# Altium integrated library Capacitor - Aluminium TH.IntLib: 4591 symbols (part 4 of 68)
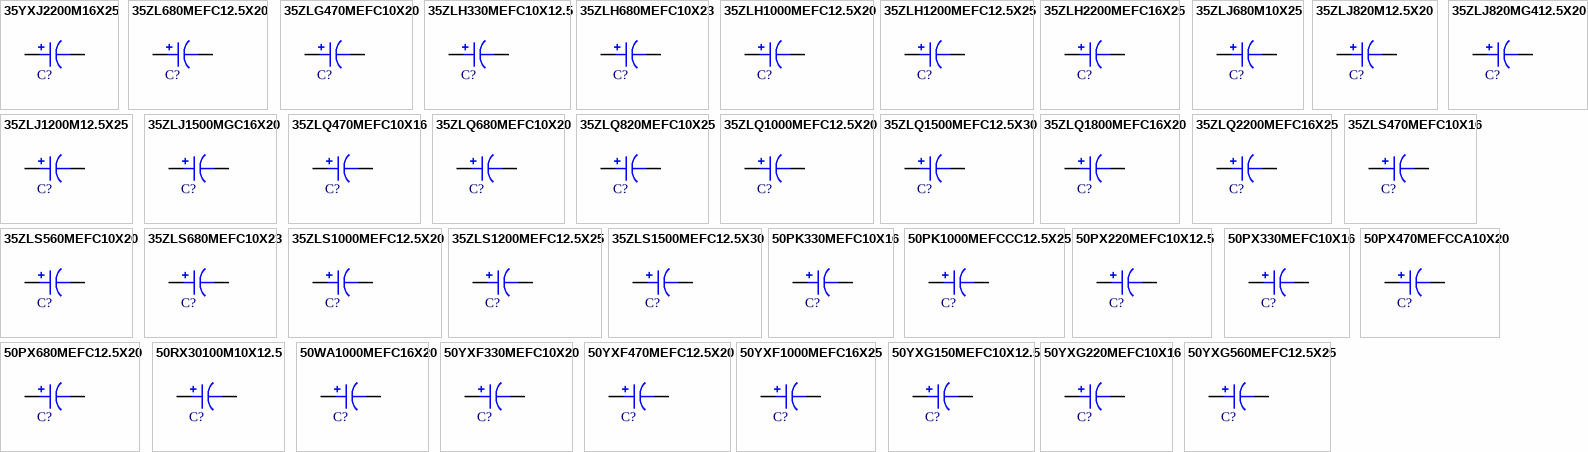
[diagram p117: symbols 35YXJ2200M16X25 to 50YXG560MEFC12.5X25]

## 35ZLH330MEFC10X12.5
designator C?, comment 330uF  (value not drawn)
CAP ALUM 330UF 20% 35V RADIAL; Part Number: 35ZLH330MEFC10X12.5; Manufacturer: Rubycon; TemperatureRange: -40C ~ 105C; Type: Polar; Ripple Current: 731.5mA; Impedance: 39 mOhm; Value: 330uF; PartId: 24871; Supplier 1: Digi-Key; Supplier Part Number 1: 1189-1891-ND; ComponentLink1Description: Datasheet; ComponentLink1URL: http://www.rubycon.co.jp/en/catalog/e_pdfs/aluminum/e_zlh.pdf; ComponentLink2Description: Digi-Key Listing; ComponentLink2URL: https://www.digikey.com/product-detail/en/rubycon/35ZLH330MEFC10X12.5/1189-1891-ND/3563615; Tolerance: 20%; Voltage: 35V; Price: 0.48; Device Package: Radial, Can, 10mm
footprint CAP AL TH D10 L5 H14.5
pins: 1, 2

## 35ZLH680MEFC10X23
designator C?, comment 680uF  (value not drawn)
CAP ALUM 680UF 20% 35V RADIAL; Part Number: 35ZLH680MEFC10X23; Manufacturer: Rubycon; TemperatureRange: -40C ~ 105C; Type: Polar; Ripple Current: 1.238A; Impedance: 18 mOhm; Value: 680uF; PartId: 26048; Supplier 1: Digi-Key; Supplier Part Number 1: 1189-1749-ND; ComponentLink1Description: Datasheet; ComponentLink1URL: http://www.rubycon.co.jp/en/catalog/e_pdfs/aluminum/e_zlh.pdf; ComponentLink2Description: Digi-Key Listing; ComponentLink2URL: https://www.digikey.com/product-detail/en/rubycon/35ZLH680MEFC10X23/1189-1749-ND/3563861; Tolerance: 20%; Voltage: 35V; Price: 0.63; Device Package: Radial, Can, 10mm
footprint CAP AL TH D10 L5 H30
pins: 1, 2

## 35ZLH1000MEFC12.5X20
designator C?, comment 1000uF  (value not drawn)
CAP ALUM 1000UF 20% 35V RADIAL; Part Number: 35ZLH1000MEFC12.5X20; Manufacturer: Rubycon; TemperatureRange: -40C ~ 105C; Type: Polar; Ripple Current: 1.488A; Impedance: 17 mOhm; Value: 1000uF; PartId: 23344; Supplier 1: Digi-Key; Supplier Part Number 1: 1189-1888-ND; ComponentLink1Description: Datasheet; ComponentLink1URL: http://www.rubycon.co.jp/en/catalog/e_pdfs/aluminum/e_zlh.pdf; ComponentLink2Description: Digi-Key Listing; ComponentLink2URL: https://www.digikey.com/product-detail/en/rubycon/35ZLH1000MEFC12.5X20/1189-1888-ND/3564067; Tolerance: 20%; Voltage: 35V; Price: 0.85; Device Package: Radial, Can, 12.5mm
footprint CAP AL TH D12.5 L5 H22
pins: 1, 2

## 35ZLH1200MEFC12.5X25
designator C?, comment 1200uF  (value not drawn)
CAP ALUM 1200UF 20% 35V RADIAL; Part Number: 35ZLH1200MEFC12.5X25; Manufacturer: Rubycon; TemperatureRange: -40C ~ 105C; Type: Polar; Ripple Current: 1.74A; Impedance: 15 mOhm; Value: 1200uF; PartId: 23917; Supplier 1: Digi-Key; Supplier Part Number 1: 1189-2265-ND; ComponentLink1Description: Datasheet; ComponentLink1URL: http://www.rubycon.co.jp/en/catalog/e_pdfs/aluminum/e_zlh.pdf; ComponentLink2Description: Digi-Key Listing; ComponentLink2URL: https://www.digikey.com/product-detail/en/rubycon/35ZLH1200MEFC12.5X25/1189-2265-ND/3564152; Tolerance: 20%; Voltage: 35V; Price: 0.93; Device Package: Radial, Can, 12.5mm
footprint CAP AL TH D12.5 L5 H27
pins: 1, 2

## 35ZLH2200MEFC16X25
designator C?, comment 2200uF  (value not drawn)
CAP ALUM 2200UF 20% 35V RADIAL; Part Number: 35ZLH2200MEFC16X25; Manufacturer: Rubycon; TemperatureRange: -40C ~ 105C; Type: Polar; Ripple Current: 2.541A; Impedance: 13 mOhm; Value: 2200uF; PartId: 26883; Supplier 1: Digi-Key; Supplier Part Number 1: 1189-2266-ND; ComponentLink1Description: Datasheet; ComponentLink1URL: http://www.rubycon.co.jp/en/catalog/e_pdfs/aluminum/e_zlh.pdf; ComponentLink2Description: Digi-Key Listing; ComponentLink2URL: https://www.digikey.com/product-detail/en/rubycon/35ZLH2200MEFC16X25/1189-2266-ND/3564493; Tolerance: 20%; Voltage: 35V; Price: 1.31; Device Package: Radial, Can, 16mm
footprint CAP AL TH D16 L7.5 H27
pins: 1, 2

## 35ZLJ680M10X25
designator C?, comment 680uF  (value not drawn)
CAP ALUM 680UF 20% 35V RADIAL; Part Number: 35ZLJ680M10X25; Manufacturer: Rubycon; TemperatureRange: -40C ~ 105C; Type: Polar; Ripple Current: 1.595A @ 120Hz; Impedance: 24 mOhm; Value: 680uF; PartId: 26156; Supplier 1: Digi-Key; Supplier Part Number 1: 1189-1307-ND; ComponentLink1Description: Datasheet; ComponentLink1URL: http://www.rubycon.co.jp/en/catalog/e_pdfs/aluminum/e_zlj.pdf; ComponentLink2Description: Digi-Key Listing; ComponentLink2URL: https://www.digikey.com/product-detail/en/rubycon/35ZLJ680M10X25/1189-1307-ND/3134263; Tolerance: 20%; Voltage: 35V; Price: 0.86; Device Package: Radial, Can, 10mm
footprint CAP AL TH D10 L5 H30
pins: 1, 2

## 35ZLJ820M12.5X20
designator C?, comment 820uF  (value not drawn)
CAP ALUM 820UF 20% 35V RADIAL; Part Number: 35ZLJ820M12.5X20; Manufacturer: Rubycon; TemperatureRange: -40C ~ 105C; Type: Polar; Ripple Current: 1.56A @ 120Hz; Impedance: 25 mOhm; Value: 820uF; PartId: 23432; Supplier 1: Digi-Key; Supplier Part Number 1: 1189-2274-ND; ComponentLink1Description: Datasheet; ComponentLink1URL: http://www.rubycon.co.jp/en/catalog/e_pdfs/aluminum/e_zlj.pdf; ComponentLink2Description: Digi-Key Listing; ComponentLink2URL: https://www.digikey.com/product-detail/en/rubycon/35ZLJ820M12.5X20/1189-2274-ND/3564068; Tolerance: 20%; Voltage: 35V; Price: 1.01; Device Package: Radial, Can, 12.5mm
footprint CAP AL TH D12.5 L5 H22
pins: 1, 2

## 35ZLJ820MG412.5X20
designator C?, comment 820uF  (value not drawn)
CAP ALUM 820UF 20% 35V RADIAL; Part Number: 35ZLJ820MG412.5X20; Manufacturer: Rubycon; TemperatureRange: -40C ~ 105C; Type: Polar; Ripple Current: 1.56A @ 120Hz; Impedance: 25 mOhm; Value: 820uF; PartId: 23495; Supplier 1: Digi-Key; Supplier Part Number 1: 1189-1631-1-ND; ComponentLink1Description: Datasheet; ComponentLink1URL: http://www.rubycon.co.jp/en/catalog/e_pdfs/aluminum/e_zlj.pdf; ComponentLink2Description: Digi-Key Listing; ComponentLink2URL: https://www.digikey.com/product-detail/en/rubycon/35ZLJ820MG412.5X20/1189-1631-1-ND/3134588; Tolerance: 20%; Voltage: 35V; Price: 1.19; Device Package: Radial, Can, 12.5mm
footprint CAP AL TH D12.5 L5 H22
pins: 1, 2

## 35ZLJ1200M12.5X25
designator C?, comment 1200uF  (value not drawn)
CAP ALUM 1200UF 20% 35V RADIAL; Part Number: 35ZLJ1200M12.5X25; Manufacturer: Rubycon; TemperatureRange: -40C ~ 105C; Type: Polar; Ripple Current: 1.92A @ 120Hz; Impedance: 19 mOhm; Value: 1200uF; PartId: 24085; Supplier 1: Digi-Key; Supplier Part Number 1: 1189-2269-ND; ComponentLink1Description: Datasheet; ComponentLink1URL: http://www.rubycon.co.jp/en/catalog/e_pdfs/aluminum/e_zlj.pdf; ComponentLink2Description: Digi-Key Listing; ComponentLink2URL: https://www.digikey.com/product-detail/en/rubycon/35ZLJ1200M12.5X25/1189-2269-ND/3564157; Tolerance: 20%; Voltage: 35V; Price: 1.23; Device Package: Radial, Can, 12.5mm
footprint CAP AL TH D12.5 L5 H27
pins: 1, 2

## 35ZLJ1500MGC16X20
designator C?, comment 1500uF  (value not drawn)
CAP ALUM 1500UF 20% 35V RADIAL; Part Number: 35ZLJ1500MGC16X20; Manufacturer: Rubycon; TemperatureRange: -40C ~ 105C; Type: Polar; Ripple Current: 1.998A @ 120Hz; Impedance: 21 mOhm; Value: 1500uF; PartId: 26397; Supplier 1: Digi-Key; Supplier Part Number 1: 1189-1628-3-ND; ComponentLink1Description: Datasheet; ComponentLink1URL: http://www.rubycon.co.jp/en/catalog/e_pdfs/aluminum/e_zlj.pdf; ComponentLink2Description: Digi-Key Listing; ComponentLink2URL: https://www.digikey.com/product-detail/en/rubycon/35ZLJ1500MGC16X20/1189-1628-3-ND/3134908; Tolerance: 20%; Voltage: 35V; Price: 0.8684; Device Package: Radial, Can, 16mm
footprint CAP AL TH D16 L7.5 H22
pins: 1, 2

## 35ZLQ470MEFC10X16
designator C?, comment 470uF  (value not drawn)
CAP ALUM 470UF 20% 35V T/H; Part Number: 35ZLQ470MEFC10X16; Manufacturer: Rubycon; TemperatureRange: -40C ~ 105C; Type: Polar; Ripple Current: 1.0615A @ 120Hz; Impedance: 25 mOhm; Value: 470uF; PartId: 25446; Supplier 1: Digi-Key; Supplier Part Number 1: 1189-3662-ND; ComponentLink1Description: Datasheet; ComponentLink1URL: http://www.rubycon.co.jp/en/catalog/e_pdfs/aluminum/e_ZLQ.pdf; ComponentLink2Description: Digi-Key Listing; ComponentLink2URL: https://www.digikey.com/product-detail/en/rubycon/35ZLQ470MEFC10X16/1189-3662-ND/6049879; Tolerance: 20%; Voltage: 35V; Price: 0.68; Device Package: Radial, Can, 10mm
footprint CAP AL TH D10 L5 H17.5
pins: 1, 2

## 35ZLQ680MEFC10X20
designator C?, comment 680uF  (value not drawn)
CAP ALUM 680UF 20% 35V T/H; Part Number: 35ZLQ680MEFC10X20; Manufacturer: Rubycon; TemperatureRange: -40C ~ 105C; Type: Polar; Ripple Current: 1.1715A @ 120Hz; Impedance: 18 mOhm; Value: 680uF; PartId: 25913; Supplier 1: Digi-Key; Supplier Part Number 1: 1189-3663-ND; ComponentLink1Description: Datasheet; ComponentLink1URL: http://www.rubycon.co.jp/en/catalog/e_pdfs/aluminum/e_ZLQ.pdf; ComponentLink2Description: Digi-Key Listing; ComponentLink2URL: https://www.digikey.com/product-detail/en/rubycon/35ZLQ680MEFC10X20/1189-3663-ND/6049880; Tolerance: 20%; Voltage: 35V; Price: 0.7; Device Package: Radial, Can, 10mm
footprint CAP AL TH D10 L5 H22
pins: 1, 2

## 35ZLQ820MEFC10X25
designator C?, comment 820uF  (value not drawn)
CAP ALUM 820UF 20% 35V T/H; Part Number: 35ZLQ820MEFC10X25; Manufacturer: Rubycon; TemperatureRange: -40C ~ 105C; Type: Polar; Ripple Current: 1.5A @ 120Hz; Impedance: 15 mOhm; Value: 820uF; PartId: 26126; Supplier 1: Digi-Key; Supplier Part Number 1: 1189-3664-ND; ComponentLink1Description: Datasheet; ComponentLink1URL: http://www.rubycon.co.jp/en/catalog/e_pdfs/aluminum/e_ZLQ.pdf; ComponentLink2Description: Digi-Key Listing; ComponentLink2URL: https://www.digikey.com/product-detail/en/rubycon/35ZLQ820MEFC10X25/1189-3664-ND/6050013; Tolerance: 20%; Voltage: 35V; Price: 0.78; Device Package: Radial, Can, 10mm
footprint CAP AL TH D10 L5 H30
pins: 1, 2

## 35ZLQ1000MEFC12.5X20
designator C?, comment 1000uF  (value not drawn)
CAP ALUM 1000UF 20% 35V T/H; Part Number: 35ZLQ1000MEFC12.5X20; Manufacturer: Rubycon; TemperatureRange: -40C ~ 105C; Type: Polar; Ripple Current: 1.614A @ 120Hz; Impedance: 16 mOhm; Value: 1000uF; PartId: 23434; Supplier 1: Digi-Key; Supplier Part Number 1: 1189-3665-ND; ComponentLink1Description: Datasheet; ComponentLink1URL: http://www.rubycon.co.jp/en/catalog/e_pdfs/aluminum/e_ZLQ.pdf; ComponentLink2Description: Digi-Key Listing; ComponentLink2URL: https://www.digikey.com/product-detail/en/rubycon/35ZLQ1000MEFC12.5X20/1189-3665-ND/6050014; Tolerance: 20%; Voltage: 35V; Price: 1.01; Device Package: Radial, Can, 12.5mm
footprint CAP AL TH D12.5 L5 H22
pins: 1, 2

## 35ZLQ1500MEFC12.5X30
designator C?, comment 1500uF  (value not drawn)
CAP ALUM 1500UF 20% 35V T/H; Part Number: 35ZLQ1500MEFC12.5X30; Manufacturer: Rubycon; TemperatureRange: -40C ~ 105C; Type: Polar; Ripple Current: 2.208A @ 120Hz; Impedance: 12 mOhm; Value: 1500uF; PartId: 24311; Supplier 1: Digi-Key; Supplier Part Number 1: 1189-3666-ND; ComponentLink1Description: Datasheet; ComponentLink1URL: http://www.rubycon.co.jp/en/catalog/e_pdfs/aluminum/e_ZLQ.pdf; ComponentLink2Description: Digi-Key Listing; ComponentLink2URL: https://www.digikey.com/product-detail/en/rubycon/35ZLQ1500MEFC12.5X30/1189-3666-ND/6050015; Tolerance: 20%; Voltage: 35V; Price: 1.23; Device Package: Radial, Can, 12.5mm
footprint CAP AL TH D12.5 L5 H35.5
pins: 1, 2

## 35ZLQ1800MEFC16X20
designator C?, comment 1800uF  (value not drawn)
CAP ALUM 1800UF 20% 35V T/H; Part Number: 35ZLQ1800MEFC16X20; Manufacturer: Rubycon; TemperatureRange: -40C ~ 105C; Type: Polar; Ripple Current: 2.1A @ 120Hz; Impedance: 14 mOhm; Value: 1800uF; PartId: 26448; Supplier 1: Digi-Key; Supplier Part Number 1: 1189-3668-ND; ComponentLink1Description: Datasheet; ComponentLink1URL: http://www.rubycon.co.jp/en/catalog/e_pdfs/aluminum/e_ZLQ.pdf; ComponentLink2Description: Digi-Key Listing; ComponentLink2URL: https://www.digikey.com/product-detail/en/rubycon/35ZLQ1800MEFC16X20/1189-3668-ND/6050191; Tolerance: 20%; Voltage: 35V; Price: 1.48; Device Package: Radial, Can, 16mm
footprint CAP AL TH D16 L7.5 H22
pins: 1, 2

## 35ZLQ2200MEFC16X25
designator C?, comment 2200uF  (value not drawn)
CAP ALUM 2200UF 20% 35V T/H; Part Number: 35ZLQ2200MEFC16X25; Manufacturer: Rubycon; TemperatureRange: -40C ~ 105C; Type: Polar; Ripple Current: 2.716A @ 120Hz; Impedance: 11 mOhm; Value: 2200uF; PartId: 26909; Supplier 1: Digi-Key; Supplier Part Number 1: 1189-3670-ND; ComponentLink1Description: Datasheet; ComponentLink1URL: http://www.rubycon.co.jp/en/catalog/e_pdfs/aluminum/e_ZLQ.pdf; ComponentLink2Description: Digi-Key Listing; ComponentLink2URL: https://www.digikey.com/product-detail/en/rubycon/35ZLQ2200MEFC16X25/1189-3670-ND/6050192; Tolerance: 20%; Voltage: 35V; Price: 1.62; Device Package: Radial, Can, 16mm
footprint CAP AL TH D16 L7.5 H27
pins: 1, 2

## 35ZLS470MEFC10X16
designator C?, comment 470uF  (value not drawn)
CAP ALUM 470UF 20% 35V RADIAL; Part Number: 35ZLS470MEFC10X16; Manufacturer: Rubycon; TemperatureRange: -40C ~ 105C; Type: Polar; Ripple Current: 907.5mA; Impedance: 32 mOhm; Value: 470uF; PartId: 25352; Supplier 1: Digi-Key; Supplier Part Number 1: 1189-2598-ND; ComponentLink1Description: Datasheet; ComponentLink1URL: http://www.rubycon.co.jp/en/catalog/e_pdfs/aluminum/e_zls.pdf; ComponentLink2Description: Digi-Key Listing; ComponentLink2URL: https://www.digikey.com/product-detail/en/rubycon/35ZLS470MEFC10X16/1189-2598-ND/4977144; Tolerance: 20%; Voltage: 35V; Price: 0.69; Device Package: Radial, Can, 10mm
footprint CAP AL TH D10 L5 H17.5
pins: 1, 2

## 35ZLS560MEFC10X20
designator C?, comment 560uF  (value not drawn)
CAP ALUM 560UF 20% 35V RADIAL; Part Number: 35ZLS560MEFC10X20; Manufacturer: Rubycon; TemperatureRange: -40C ~ 105C; Type: Polar; Ripple Current: 1.078A; Impedance: 20 mOhm; Value: 560uF; PartId: 25889; Supplier 1: Digi-Key; Supplier Part Number 1: 1189-2599-ND; ComponentLink1Description: Datasheet; ComponentLink1URL: http://www.rubycon.co.jp/en/catalog/e_pdfs/aluminum/e_zls.pdf; ComponentLink2Description: Digi-Key Listing; ComponentLink2URL: https://www.digikey.com/product-detail/en/rubycon/35ZLS560MEFC10X20/1189-2599-ND/4977145; Tolerance: 20%; Voltage: 35V; Price: 0.65; Device Package: Radial, Can, 10mm
footprint CAP AL TH D10 L5 H22
pins: 1, 2

## 35ZLS680MEFC10X23
designator C?, comment 680uF  (value not drawn)
CAP ALUM 680UF 20% 35V RADIAL; Part Number: 35ZLS680MEFC10X23; Manufacturer: Rubycon; TemperatureRange: -40C ~ 105C; Type: Polar; Ripple Current: 1.238A; Impedance: 18 mOhm; Value: 680uF; PartId: 26124; Supplier 1: Digi-Key; Supplier Part Number 1: 1189-2600-ND; ComponentLink1Description: Datasheet; ComponentLink1URL: http://www.rubycon.co.jp/en/catalog/e_pdfs/aluminum/e_zls.pdf; ComponentLink2Description: Digi-Key Listing; ComponentLink2URL: https://www.digikey.com/product-detail/en/rubycon/35ZLS680MEFC10X23/1189-2600-ND/4977146; Tolerance: 20%; Voltage: 35V; Price: 0.78; Device Package: Radial, Can, 10mm
footprint CAP AL TH D10 L5 H30
pins: 1, 2

## 35ZLS1000MEFC12.5X20
designator C?, comment 1000uF  (value not drawn)
CAP ALUM 1000UF 20% 35V RADIAL; Part Number: 35ZLS1000MEFC12.5X20; Manufacturer: Rubycon; TemperatureRange: -40C ~ 105C; Type: Polar; Ripple Current: 1.488A; Impedance: 17 mOhm; Value: 1000uF; PartId: 23429; Supplier 1: Digi-Key; Supplier Part Number 1: 1189-2601-ND; ComponentLink1Description: Datasheet; ComponentLink1URL: http://www.rubycon.co.jp/en/catalog/e_pdfs/aluminum/e_zls.pdf; ComponentLink2Description: Digi-Key Listing; ComponentLink2URL: https://www.digikey.com/product-detail/en/rubycon/35ZLS1000MEFC12.5X20/1189-2601-ND/4977147; Tolerance: 20%; Voltage: 35V; Price: 1.01; Device Package: Radial, Can, 12.5mm
footprint CAP AL TH D12.5 L5 H22
pins: 1, 2

## 35ZLS1200MEFC12.5X25
designator C?, comment 1200uF  (value not drawn)
CAP ALUM 1200UF 20% 35V RADIAL; Part Number: 35ZLS1200MEFC12.5X25; Manufacturer: Rubycon; TemperatureRange: -40C ~ 105C; Type: Polar; Ripple Current: 1.74A; Impedance: 15 mOhm; Value: 1200uF; PartId: 23977; Supplier 1: Digi-Key; Supplier Part Number 1: 1189-2602-ND; ComponentLink1Description: Datasheet; ComponentLink1URL: http://www.rubycon.co.jp/en/catalog/e_pdfs/aluminum/e_zls.pdf; ComponentLink2Description: Digi-Key Listing; ComponentLink2URL: https://www.digikey.com/product-detail/en/rubycon/35ZLS1200MEFC12.5X25/1189-2602-ND/4977148; Tolerance: 20%; Voltage: 35V; Price: 1.02; Device Package: Radial, Can, 12.5mm
footprint CAP AL TH D12.5 L5 H27
pins: 1, 2

## 35ZLS1500MEFC12.5X30
designator C?, comment 1500uF  (value not drawn)
CAP ALUM 1500UF 20% 35V RADIAL; Part Number: 35ZLS1500MEFC12.5X30; Manufacturer: Rubycon; TemperatureRange: -40C ~ 105C; Type: Polar; Ripple Current: 2.07A; Impedance: 13 mOhm; Value: 1500uF; PartId: 24339; Supplier 1: Digi-Key; Supplier Part Number 1: 1189-2603-ND; ComponentLink1Description: Datasheet; ComponentLink1URL: http://www.rubycon.co.jp/en/catalog/e_pdfs/aluminum/e_zls.pdf; ComponentLink2Description: Digi-Key Listing; ComponentLink2URL: https://www.digikey.com/product-detail/en/rubycon/35ZLS1500MEFC12.5X30/1189-2603-ND/4977149; Tolerance: 20%; Voltage: 35V; Price: 1.31; Device Package: Radial, Can, 12.5mm
footprint CAP AL TH D12.5 L5 H35.5
pins: 1, 2

## 50PK330MEFC10X16
designator C?, comment 330uF  (value not drawn)
CAP ALUM 330UF 20% 50V RADIAL; Part Number: 50PK330MEFC10X16; Manufacturer: Rubycon; TemperatureRange: -40C ~ 85C; Ripple Current: 590mA; Value: 330uF; PartId: 25316; Supplier 1: Digi-Key; Supplier Part Number 1: 1189-1395-ND; ComponentLink1Description: Datasheet; ComponentLink1URL: http://www.rubycon.co.jp/en/catalog/e_pdfs/aluminum/e_pk.pdf; ComponentLink2Description: Digi-Key Listing; ComponentLink2URL: https://www.digikey.com/product-detail/en/rubycon/50PK330MEFC10X16/1189-1395-ND/3134351; Tolerance: 20%; Voltage: 50V; Price: 0.65; Device Package: Radial, Can, 10mm
footprint CAP AL TH D10 L5 H17.5
pins: 1, 2

## 50PK1000MEFCCC12.5X25
designator C?, comment 1000uF  (value not drawn)
CAP ALUM 1000UF 20% 50V RADIAL; Part Number: 50PK1000MEFCCC12.5X25; Manufacturer: Rubycon; TemperatureRange: -40C ~ 85C; Ripple Current: 1.35A; Value: 1000uF; PartId: 23701; Supplier 1: Digi-Key; Supplier Part Number 1: 1189-1393-ND; ComponentLink1Description: Datasheet; ComponentLink1URL: http://www.rubycon.co.jp/en/catalog/e_pdfs/aluminum/e_pk.pdf; ComponentLink2Description: Digi-Key Listing; ComponentLink2URL: https://www.digikey.com/product-detail/en/rubycon/50PK1000MEFCCC12.5X25/1189-1393-ND/3134349; Tolerance: 20%; Voltage: 50V; Price: 1.09; Device Package: Radial, Can, 12.5mm
footprint CAP AL TH D12.5 L5 H26.5
pins: 1, 2

## 50PX220MEFC10X12.5
designator C?, comment 220uF  (value not drawn)
CAP ALUM 220UF 20% 50V RADIAL; Part Number: 50PX220MEFC10X12.5; Manufacturer: Rubycon; TemperatureRange: -55C ~ 105C; Type: Polar; Ripple Current: 360mA; Value: 220uF; PartId: 24763; Supplier 1: Digi-Key; Supplier Part Number 1: 1189-2310-ND; ComponentLink1Description: Datasheet; ComponentLink1URL: http://www.rubycon.co.jp/en/catalog/e_pdfs/aluminum/e_px.pdf; ComponentLink2Description: Digi-Key Listing; ComponentLink2URL: https://www.digikey.com/product-detail/en/rubycon/50PX220MEFC10X12.5/1189-2310-ND/3563560; Tolerance: 20%; Voltage: 50V; Price: 0.43; Device Package: Radial, Can, 10mm
footprint CAP AL TH D10 L5 H14.5
pins: 1, 2

## 50PX330MEFC10X16
designator C?, comment 330uF  (value not drawn)
CAP ALUM 330UF 20% 50V RADIAL; Part Number: 50PX330MEFC10X16; Manufacturer: Rubycon; TemperatureRange: -55C ~ 105C; Type: Polar; Ripple Current: 470mA; Value: 330uF; PartId: 25339; Supplier 1: Digi-Key; Supplier Part Number 1: 1189-1404-ND; ComponentLink1Description: Datasheet; ComponentLink1URL: http://www.rubycon.co.jp/en/catalog/e_pdfs/aluminum/e_px.pdf; ComponentLink2Description: Digi-Key Listing; ComponentLink2URL: https://www.digikey.com/product-detail/en/rubycon/50PX330MEFC10X16/1189-1404-ND/3134360; Tolerance: 20%; Voltage: 50V; Price: 0.67; Device Package: Radial, Can, 10mm
footprint CAP AL TH D10 L5 H17.5
pins: 1, 2

## 50PX470MEFCCA10X20
designator C?, comment 470uF  (value not drawn)
CAP ALUM 470UF 20% 50V RADIAL; Part Number: 50PX470MEFCCA10X20; Manufacturer: Rubycon; TemperatureRange: -55C ~ 105C; Type: Polar; Ripple Current: 600mA; Value: 470uF; PartId: 25600; Supplier 1: Digi-Key; Supplier Part Number 1: 1189-1407-ND; ComponentLink1Description: Datasheet; ComponentLink1URL: http://www.rubycon.co.jp/en/catalog/e_pdfs/aluminum/e_px.pdf; ComponentLink2Description: Digi-Key Listing; ComponentLink2URL: https://www.digikey.com/product-detail/en/rubycon/50PX470MEFCCA10X20/1189-1407-ND/3134363; Tolerance: 20%; Voltage: 50V; Price: 0.69; Device Package: Radial, Can, 10mm
footprint CAP AL TH D10 L5 H22
pins: 1, 2

## 50PX680MEFC12.5X20
designator C?, comment 680uF  (value not drawn)
CAP ALUM 680UF 20% 50V RADIAL; Part Number: 50PX680MEFC12.5X20; Manufacturer: Rubycon; TemperatureRange: -55C ~ 105C; Type: Polar; Ripple Current: 980mA; Value: 680uF; PartId: 22955; Supplier 1: Digi-Key; Supplier Part Number 1: 1189-1409-ND; ComponentLink1Description: Datasheet; ComponentLink1URL: http://www.rubycon.co.jp/en/catalog/e_pdfs/aluminum/e_px.pdf; ComponentLink2Description: Digi-Key Listing; ComponentLink2URL: https://www.digikey.com/product-detail/en/rubycon/50PX680MEFC12.5X20/1189-1409-ND/3134365; Tolerance: 20%; Voltage: 50V; Price: 0; Device Package: Radial, Can, 12.5mm
footprint CAP AL TH D12.5 L5 H21.5
pins: 1, 2

## 50RX30100M10X12.5
designator C?, comment 100uF  (value not drawn)
CAP ALUM 100UF 20% 50V RADIAL; Part Number: 50RX30100M10X12.5; Manufacturer: Rubycon; TemperatureRange: -40C ~ 130C; Type: Polar; Ripple Current: 364mA; Impedance: 180 mOhm; Value: 100uF; PartId: 24870; Supplier 1: Digi-Key; Supplier Part Number 1: 1189-2311-ND; ComponentLink1Description: Datasheet; ComponentLink1URL: http://www.rubycon.co.jp/en/catalog/e_pdfs/aluminum/e_rx30.pdf; ComponentLink2Description: Digi-Key Listing; ComponentLink2URL: https://www.digikey.com/product-detail/en/rubycon/50RX30100M10X12.5/1189-2311-ND/3563571; Tolerance: 20%; Voltage: 50V; Price: 0.48; Device Package: Radial, Can, 10mm
footprint CAP AL TH D10 L5 H14.5
pins: 1, 2

## 50WA1000MEFC16X20
designator C?, comment 1000uF  (value not drawn)
CAP ALUM 1000UF 20% 50V RADIAL; Part Number: 50WA1000MEFC16X20; Manufacturer: Rubycon; TemperatureRange: -40C ~ 85C; Ripple Current: 1.05A; Value: 1000uF; PartId: 26410; Supplier 1: Digi-Key; Supplier Part Number 1: 1189-2314-ND; ComponentLink1Description: Datasheet; ComponentLink1URL: http://www.rubycon.co.jp/en/catalog/e_pdfs/aluminum/e_wa.pdf; ComponentLink2Description: Digi-Key Listing; ComponentLink2URL: https://www.digikey.com/product-detail/en/rubycon/50WA1000MEFC16X20/1189-2314-ND/3564370; Tolerance: 20%; Voltage: 50V; Price: 1.04; Device Package: Radial, Can, 16mm
footprint CAP AL TH D16 L7.5 H22
pins: 1, 2

## 50YXF330MEFC10X20
designator C?, comment 330uF  (value not drawn)
CAP ALUM 330UF 20% 50V RADIAL; Part Number: 50YXF330MEFC10X20; Manufacturer: Rubycon; TemperatureRange: -40C ~ 105C; Type: Polar; Ripple Current: 735mA; Impedance: 78 mOhm; Value: 330uF; PartId: 25918; Supplier 1: Digi-Key; Supplier Part Number 1: 1189-2317-ND; ComponentLink1Description: Datasheet; ComponentLink1URL: http://www.rubycon.co.jp/en/catalog/e_pdfs/aluminum/e_yxf.pdf; ComponentLink2Description: Digi-Key Listing; ComponentLink2URL: https://www.digikey.com/product-detail/en/rubycon/50YXF330MEFC10X20/1189-2317-ND/3563780; Tolerance: 20%; Voltage: 50V; Price: 0.71; Device Package: Radial, Can, 10mm
footprint CAP AL TH D10 L5 H22
pins: 1, 2

## 50YXF470MEFC12.5X20
designator C?, comment 470uF  (value not drawn)
CAP ALUM 470UF 20% 50V RADIAL; Part Number: 50YXF470MEFC12.5X20; Manufacturer: Rubycon; TemperatureRange: -40C ~ 105C; Type: Polar; Ripple Current: 975mA; Impedance: 62 mOhm; Value: 470uF; PartId: 23417; Supplier 1: Digi-Key; Supplier Part Number 1: 1189-2318-ND; ComponentLink1Description: Datasheet; ComponentLink1URL: http://www.rubycon.co.jp/en/catalog/e_pdfs/aluminum/e_yxf.pdf; ComponentLink2Description: Digi-Key Listing; ComponentLink2URL: https://www.digikey.com/product-detail/en/rubycon/50YXF470MEFC12.5X20/1189-2318-ND/3564022; Tolerance: 20%; Voltage: 50V; Price: 1; Device Package: Radial, Can, 12.5mm
footprint CAP AL TH D12.5 L5 H22
pins: 1, 2

## 50YXF1000MEFC16X25
designator C?, comment 1000uF  (value not drawn)
CAP ALUM 1000UF 20% 50V RADIAL; Part Number: 50YXF1000MEFC16X25; Manufacturer: Rubycon; TemperatureRange: -40C ~ 105C; Type: Polar; Ripple Current: 1.4A; Impedance: 34 mOhm; Value: 1000uF; PartId: 26913; Supplier 1: Digi-Key; Supplier Part Number 1: 1189-2315-ND; ComponentLink1Description: Datasheet; ComponentLink1URL: http://www.rubycon.co.jp/en/catalog/e_pdfs/aluminum/e_yxf.pdf; ComponentLink2Description: Digi-Key Listing; ComponentLink2URL: https://www.digikey.com/product-detail/en/rubycon/50YXF1000MEFC16X25/1189-2315-ND/3564460; Tolerance: 20%; Voltage: 50V; Price: 1.64; Device Package: Radial, Can, 16mm
footprint CAP AL TH D16 L7.5 H27
pins: 1, 2

## 50YXG150MEFC10X12.5
designator C?, comment 150uF  (value not drawn)
CAP ALUM 150UF 20% 50V RADIAL; Part Number: 50YXG150MEFC10X12.5; Manufacturer: Rubycon; TemperatureRange: -40C ~ 105C; Type: Polar; Value: 150uF; PartId: 24949; Supplier 1: Digi-Key; Supplier Part Number 1: 1189-1411-ND; ComponentLink1Description: Datasheet; ComponentLink1URL: http://www.rubycon.co.jp/en/catalog/e_pdfs/aluminum/e_yxg.pdf; ComponentLink2Description: Digi-Key Listing; ComponentLink2URL: https://www.digikey.com/product-detail/en/rubycon/50YXG150MEFC10X12.5/1189-1411-ND/3134367; Tolerance: 20%; Voltage: 50V; Price: 0.52; Device Package: Radial, Can, 10mm
footprint CAP AL TH D10 L5 H14.5
pins: 1, 2

## 50YXG220MEFC10X16
designator C?, comment 220uF  (value not drawn)
CAP ALUM 220UF 20% 50V RADIAL; Part Number: 50YXG220MEFC10X16; Manufacturer: Rubycon; TemperatureRange: -40C ~ 105C; Type: Polar; Ripple Current: 525mA @ 120Hz; Impedance: 84 mOhm; Value: 220uF; PartId: 25296; Supplier 1: Digi-Key; Supplier Part Number 1: 1189-1754-ND; ComponentLink1Description: Datasheet; ComponentLink1URL: http://www.rubycon.co.jp/en/catalog/e_pdfs/aluminum/e_yxg.pdf; ComponentLink2Description: Digi-Key Listing; ComponentLink2URL: https://www.digikey.com/product-detail/en/rubycon/50YXG220MEFC10X16/1189-1754-ND/3563696; Tolerance: 20%; Voltage: 50V; Price: 0.63; Device Package: Radial, Can, 10mm
footprint CAP AL TH D10 L5 H17.5
pins: 1, 2

## 50YXG560MEFC12.5X25
designator C?, comment 560uF  (value not drawn)
CAP ALUM 560UF 20% 50V RADIAL; Part Number: 50YXG560MEFC12.5X25; Manufacturer: Rubycon; TemperatureRange: -40C ~ 105C; Type: Polar; Ripple Current: 1.072A @ 120Hz; Impedance: 34 mOhm; Value: 560uF; PartId: 23992; Supplier 1: Digi-Key; Supplier Part Number 1: 1189-1756-ND; ComponentLink1Description: Datasheet; ComponentLink1URL: http://www.rubycon.co.jp/en/catalog/e_pdfs/aluminum/e_yxg.pdf; ComponentLink2Description: Digi-Key Listing; ComponentLink2URL: https://www.digikey.com/product-detail/en/rubycon/50YXG560MEFC12.5X25/1189-1756-ND/3564115; Tolerance: 20%; Voltage: 50V; Price: 1.04; Device Package: Radial, Can, 12.5mm
footprint CAP AL TH D12.5 L5 H27
pins: 1, 2

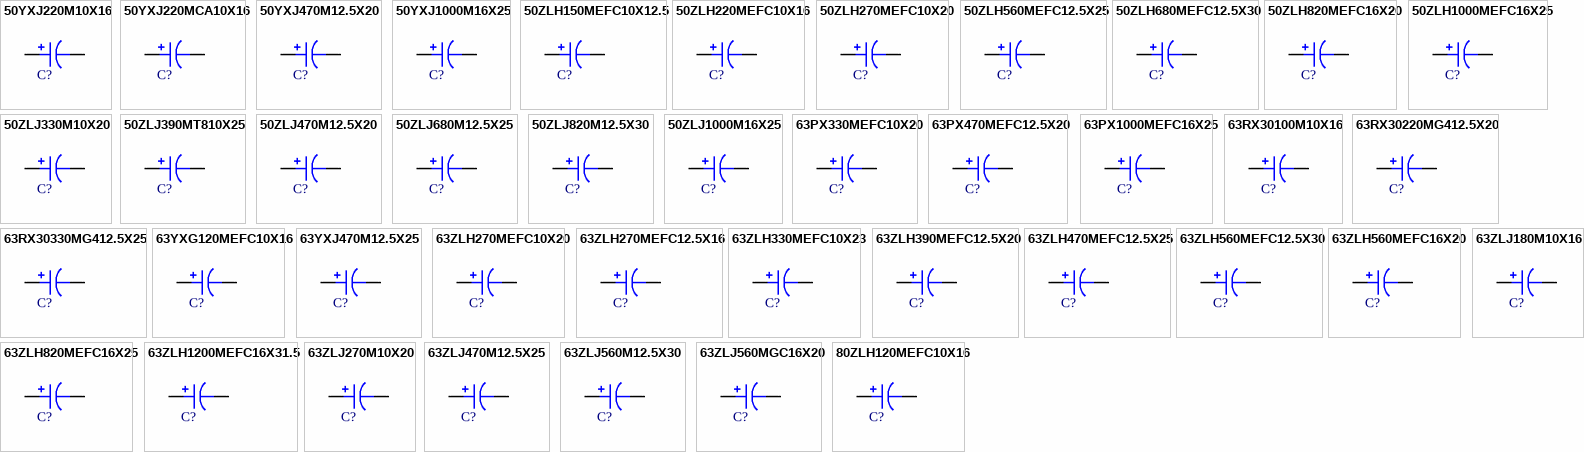
[diagram p6: symbols 50YXJ220M10X16 to 80ZLH120MEFC10X16]

## 50YXJ220M10X16
designator C?, comment 220uF  (value not drawn)
CAP ALUM 220UF 20% 50V RADIAL; Part Number: 50YXJ220M10X16; Manufacturer: Rubycon; TemperatureRange: -40C ~ 105C; Type: Polar; Ripple Current: 1.05A; Impedance: 84 mOhm; Value: 220uF; PartId: 25249; Supplier 1: Digi-Key; Supplier Part Number 1: 1189-1770-ND; ComponentLink1Description: Datasheet; ComponentLink1URL: http://www.rubycon.co.jp/en/catalog/e_pdfs/aluminum/e_yxj.pdf; ComponentLink2Description: Digi-Key Listing; ComponentLink2URL: https://www.digikey.com/product-detail/en/rubycon/50YXJ220M10X16/1189-1770-ND/3563704; Tolerance: 20%; Voltage: 50V; Price: 0.57; Device Package: Radial, Can, 10mm
footprint CAP AL TH D10 L5 H17.5
pins: 1, 2

## 50YXJ220MCA10X16
designator C?, comment 220uF  (value not drawn)
CAP ALUM 220UF 20% 50V RADIAL; Part Number: 50YXJ220MCA10X16; Manufacturer: Rubycon; TemperatureRange: -40C ~ 105C; Type: Polar; Ripple Current: 1.05A; Impedance: 84 mOhm; Value: 220uF; PartId: 25324; Supplier 1: Digi-Key; Supplier Part Number 1: 1189-1423-ND; ComponentLink1Description: Datasheet; ComponentLink1URL: http://www.rubycon.co.jp/en/catalog/e_pdfs/aluminum/e_yxj.pdf; ComponentLink2Description: Digi-Key Listing; ComponentLink2URL: https://www.digikey.com/product-detail/en/rubycon/50YXJ220MCA10X16/1189-1423-ND/3134379; Tolerance: 20%; Voltage: 50V; Price: 0.66; Device Package: Radial, Can, 10mm
footprint CAP AL TH D10 L5 H17.5
pins: 1, 2

## 50YXJ470M12.5X20
designator C?, comment 470uF  (value not drawn)
CAP ALUM 470UF 20% 50V RADIAL; Part Number: 50YXJ470M12.5X20; Manufacturer: Rubycon; TemperatureRange: -40C ~ 105C; Type: Polar; Ripple Current: 1.66A; Impedance: 45 mOhm; Value: 470uF; PartId: 23410; Supplier 1: Digi-Key; Supplier Part Number 1: 1189-2324-ND; ComponentLink1Description: Datasheet; ComponentLink1URL: http://www.rubycon.co.jp/en/catalog/e_pdfs/aluminum/e_yxj.pdf; ComponentLink2Description: Digi-Key Listing; ComponentLink2URL: https://www.digikey.com/product-detail/en/rubycon/50YXJ470M12.5X20/1189-2324-ND/3564044; Tolerance: 20%; Voltage: 50V; Price: 0.99; Device Package: Radial, Can, 12.5mm
footprint CAP AL TH D12.5 L5 H22
pins: 1, 2

## 50YXJ1000M16X25
designator C?, comment 1000uF  (value not drawn)
CAP ALUM 1000UF 20% 50V RADIAL; Part Number: 50YXJ1000M16X25; Manufacturer: Rubycon; TemperatureRange: -40C ~ 105C; Type: Polar; Ripple Current: 2.73A; Impedance: 32 mOhm; Value: 1000uF; PartId: 26910; Supplier 1: Digi-Key; Supplier Part Number 1: 1189-2321-ND; ComponentLink1Description: Datasheet; ComponentLink1URL: http://www.rubycon.co.jp/en/catalog/e_pdfs/aluminum/e_yxj.pdf; ComponentLink2Description: Digi-Key Listing; ComponentLink2URL: https://www.digikey.com/product-detail/en/rubycon/50YXJ1000M16X25/1189-2321-ND/3564478; Tolerance: 20%; Voltage: 50V; Price: 1.63; Device Package: Radial, Can, 16mm
footprint CAP AL TH D16 L7.5 H27
pins: 1, 2

## 50ZLH150MEFC10X12.5
designator C?, comment 150uF  (value not drawn)
CAP ALUM 150UF 20% 50V RADIAL; Part Number: 50ZLH150MEFC10X12.5; Manufacturer: Rubycon; TemperatureRange: -40C ~ 105C; Type: Polar; Ripple Current: 489.5mA; Impedance: 61 mOhm; Value: 150uF; PartId: 24746; Supplier 1: Digi-Key; Supplier Part Number 1: 1189-1758-ND; ComponentLink1Description: Datasheet; ComponentLink1URL: http://www.rubycon.co.jp/en/catalog/e_pdfs/aluminum/e_zlh.pdf; ComponentLink2Description: Digi-Key Listing; ComponentLink2URL: https://www.digikey.com/product-detail/en/rubycon/50ZLH150MEFC10X12.5/1189-1758-ND/3563616; Tolerance: 20%; Voltage: 50V; Price: 0.42; Device Package: Radial, Can, 10mm
footprint CAP AL TH D10 L5 H14.5
pins: 1, 2

## 50ZLH220MEFC10X16
designator C?, comment 220uF  (value not drawn)
CAP ALUM 220UF 20% 50V RADIAL; Part Number: 50ZLH220MEFC10X16; Manufacturer: Rubycon; TemperatureRange: -40C ~ 105C; Type: Polar; Ripple Current: 685mA; Impedance: 42 mOhm; Value: 220uF; PartId: 25203; Supplier 1: Digi-Key; Supplier Part Number 1: 1189-1759-ND; ComponentLink1Description: Datasheet; ComponentLink1URL: http://www.rubycon.co.jp/en/catalog/e_pdfs/aluminum/e_zlh.pdf; ComponentLink2Description: Digi-Key Listing; ComponentLink2URL: https://www.digikey.com/product-detail/en/rubycon/50ZLH220MEFC10X16/1189-1759-ND/3563724; Tolerance: 20%; Voltage: 50V; Price: 0.51; Device Package: Radial, Can, 10mm
footprint CAP AL TH D10 L5 H17.5
pins: 1, 2

## 50ZLH270MEFC10X20
designator C?, comment 270uF  (value not drawn)
CAP ALUM 270UF 20% 50V T/H; Part Number: 50ZLH270MEFC10X20; Manufacturer: Rubycon; TemperatureRange: -40C ~ 105C; Type: Polar; Ripple Current: 790mA @ 120Hz; Impedance: 30 mOhm; Value: 270uF; PartId: 25872; Supplier 1: Digi-Key; Supplier Part Number 1: 1189-3593-ND; ComponentLink1Description: Datasheet; ComponentLink1URL: http://www.rubycon.co.jp/en/catalog/e_pdfs/aluminum/e_zlh.pdf; ComponentLink2Description: Digi-Key Listing; ComponentLink2URL: https://www.digikey.com/product-detail/en/rubycon/50ZLH270MEFC10X20/1189-3593-ND/6049855; Tolerance: 20%; Voltage: 50V; Price: 0.63; Device Package: Radial, Can, 10mm
footprint CAP AL TH D10 L5 H22
pins: 1, 2

## 50ZLH560MEFC12.5X25
designator C?, comment 560uF  (value not drawn)
CAP ALUM 560UF 20% 50V RADIAL; Part Number: 50ZLH560MEFC12.5X25; Manufacturer: Rubycon; TemperatureRange: -40C ~ 105C; Type: Polar; Ripple Current: 1.3255A @ 120Hz; Impedance: 23 mOhm; Value: 560uF; PartId: 23964; Supplier 1: Digi-Key; Supplier Part Number 1: 1189-3014-ND; ComponentLink1Description: Datasheet; ComponentLink1URL: http://www.rubycon.co.jp/en/catalog/e_pdfs/aluminum/e_zlh.pdf; ComponentLink2Description: Digi-Key Listing; ComponentLink2URL: https://www.digikey.com/product-detail/en/rubycon/50ZLH560MEFC12.5X25/1189-3014-ND/3564145; Tolerance: 20%; Voltage: 50V; Price: 0.99; Device Package: Radial, Can, 12.5mm
footprint CAP AL TH D12.5 L5 H27
pins: 1, 2

## 50ZLH680MEFC12.5X30
designator C?, comment 680uF  (value not drawn)
CAP ALUM 680UF 20% 50V RADIAL; Part Number: 50ZLH680MEFC12.5X30; Manufacturer: Rubycon; TemperatureRange: -40C ~ 105C; Type: Polar; Ripple Current: 1.573A @ 120Hz; Impedance: 21 mOhm; Value: 680uF; PartId: 24304; Supplier 1: Digi-Key; Supplier Part Number 1: 1189-3016-ND; ComponentLink1Description: Datasheet; ComponentLink1URL: http://www.rubycon.co.jp/en/catalog/e_pdfs/aluminum/e_zlh.pdf; ComponentLink2Description: Digi-Key Listing; ComponentLink2URL: https://www.digikey.com/product-detail/en/rubycon/50ZLH680MEFC12.5X30/1189-3016-ND/3564200; Tolerance: 20%; Voltage: 50V; Price: 1.2; Device Package: Radial, Can, 12.5mm
footprint CAP AL TH D12.5 L5 H35.5
pins: 1, 2

## 50ZLH820MEFC16X20
designator C?, comment 820uF  (value not drawn)
CAP ALUM 820UF 20% 50V RADIAL; Part Number: 50ZLH820MEFC16X20; Manufacturer: Rubycon; TemperatureRange: -40C ~ 105C; Type: Polar; Ripple Current: 1.638A @ 120Hz; Impedance: 23 mOhm; Value: 820uF; PartId: 26437; Supplier 1: Digi-Key; Supplier Part Number 1: 1189-3018-ND; ComponentLink1Description: Datasheet; ComponentLink1URL: http://www.rubycon.co.jp/en/catalog/e_pdfs/aluminum/e_zlh.pdf; ComponentLink2Description: Digi-Key Listing; ComponentLink2URL: https://www.digikey.com/product-detail/en/rubycon/50ZLH820MEFC16X20/1189-3018-ND/3564402; Tolerance: 20%; Voltage: 50V; Price: 1.37; Device Package: Radial, Can, 16mm
footprint CAP AL TH D16 L7.5 H22
pins: 1, 2

## 50ZLH1000MEFC16X25
designator C?, comment 1000uF  (value not drawn)
CAP ALUM 1000UF 20% 50V RADIAL; Part Number: 50ZLH1000MEFC16X25; Manufacturer: Rubycon; TemperatureRange: -40C ~ 105C; Type: Polar; Ripple Current: 1.806A @ 120Hz; Impedance: 21 mOhm; Value: 1000uF; PartId: 26900; Supplier 1: Digi-Key; Supplier Part Number 1: 1189-3012-ND; ComponentLink1Description: Datasheet; ComponentLink1URL: http://www.rubycon.co.jp/en/catalog/e_pdfs/aluminum/e_zlh.pdf; ComponentLink2Description: Digi-Key Listing; ComponentLink2URL: https://www.digikey.com/product-detail/en/rubycon/50ZLH1000MEFC16X25/1189-3012-ND/3564494; Tolerance: 20%; Voltage: 50V; Price: 1.54; Device Package: Radial, Can, 16mm
footprint CAP AL TH D16 L7.5 H27
pins: 1, 2

## 50ZLJ330M10X20
designator C?, comment 330uF  (value not drawn)
CAP ALUM 330UF 20% 50V RADIAL; Part Number: 50ZLJ330M10X20; Manufacturer: Rubycon; TemperatureRange: -40C ~ 105C; Type: Polar; Ripple Current: 1.133A @ 120Hz; Impedance: 38 mOhm; Value: 330uF; PartId: 25876; Supplier 1: Digi-Key; Supplier Part Number 1: 1189-1434-ND; ComponentLink1Description: Datasheet; ComponentLink1URL: http://www.rubycon.co.jp/en/catalog/e_pdfs/aluminum/e_zlj.pdf; ComponentLink2Description: Digi-Key Listing; ComponentLink2URL: https://www.digikey.com/product-detail/en/rubycon/50ZLJ330M10X20/1189-1434-ND/3134390; Tolerance: 20%; Voltage: 50V; Price: 0.64; Device Package: Radial, Can, 10mm
footprint CAP AL TH D10 L5 H22
pins: 1, 2

## 50ZLJ390MT810X25
designator C?, comment 390uF  (value not drawn)
CAP ALUM 390UF 20% 50V RADIAL; Part Number: 50ZLJ390MT810X25; Manufacturer: Rubycon; TemperatureRange: -40C ~ 105C; Type: Polar; Ripple Current: 1.331A @ 120Hz; Impedance: 32 mOhm; Value: 390uF; PartId: 26019; Supplier 1: Digi-Key; Supplier Part Number 1: 1189-1664-2-ND; ComponentLink1Description: Datasheet; ComponentLink1URL: http://www.rubycon.co.jp/en/catalog/e_pdfs/aluminum/e_zlj.pdf; ComponentLink2Description: Digi-Key Listing; ComponentLink2URL: https://www.digikey.com/product-detail/en/rubycon/50ZLJ390MT810X25/1189-1664-2-ND/3134943; Tolerance: 20%; Voltage: 50V; Price: 0.3645; Device Package: Radial, Can, 10mm
footprint CAP AL TH D10 L5 H30
pins: 1, 2

## 50ZLJ470M12.5X20
designator C?, comment 470uF  (value not drawn)
CAP ALUM 470UF 20% 50V RADIAL; Part Number: 50ZLJ470M12.5X20; Manufacturer: Rubycon; TemperatureRange: -40C ~ 105C; Type: Polar; Ripple Current: 1.265A @ 120Hz; Impedance: 32 mOhm; Value: 470uF; PartId: 23393; Supplier 1: Digi-Key; Supplier Part Number 1: 1189-1435-ND; ComponentLink1Description: Datasheet; ComponentLink1URL: http://www.rubycon.co.jp/en/catalog/e_pdfs/aluminum/e_zlj.pdf; ComponentLink2Description: Digi-Key Listing; ComponentLink2URL: https://www.digikey.com/product-detail/en/rubycon/50ZLJ470M12.5X20/1189-1435-ND/3134391; Tolerance: 20%; Voltage: 50V; Price: 0.96; Device Package: Radial, Can, 12.5mm
footprint CAP AL TH D12.5 L5 H22
pins: 1, 2

## 50ZLJ680M12.5X25
designator C?, comment 680uF  (value not drawn)
CAP ALUM 680UF 20% 50V RADIAL; Part Number: 50ZLJ680M12.5X25; Manufacturer: Rubycon; TemperatureRange: -40C ~ 105C; Type: Polar; Ripple Current: 1.54A @ 120Hz; Impedance: 25 mOhm; Value: 680uF; PartId: 24049; Supplier 1: Digi-Key; Supplier Part Number 1: 1189-1436-ND; ComponentLink1Description: Datasheet; ComponentLink1URL: http://www.rubycon.co.jp/en/catalog/e_pdfs/aluminum/e_zlj.pdf; ComponentLink2Description: Digi-Key Listing; ComponentLink2URL: https://www.digikey.com/product-detail/en/rubycon/50ZLJ680M12.5X25/1189-1436-ND/3134392; Tolerance: 20%; Voltage: 50V; Price: 1.15; Device Package: Radial, Can, 12.5mm
footprint CAP AL TH D12.5 L5 H27
pins: 1, 2

## 50ZLJ820M12.5X30
designator C?, comment 820uF  (value not drawn)
CAP ALUM 820UF 20% 50V RADIAL; Part Number: 50ZLJ820M12.5X30; Manufacturer: Rubycon; TemperatureRange: -40C ~ 105C; Type: Polar; Ripple Current: 2.022A @ 120Hz; Impedance: 23 mOhm; Value: 820uF; PartId: 24350; Supplier 1: Digi-Key; Supplier Part Number 1: 1189-1437-ND; ComponentLink1Description: Datasheet; ComponentLink1URL: http://www.rubycon.co.jp/en/catalog/e_pdfs/aluminum/e_zlj.pdf; ComponentLink2Description: Digi-Key Listing; ComponentLink2URL: https://www.digikey.com/product-detail/en/rubycon/50ZLJ820M12.5X30/1189-1437-ND/3134393; Tolerance: 20%; Voltage: 50V; Price: 1.39; Device Package: Radial, Can, 12.5mm
footprint CAP AL TH D12.5 L5 H35.5
pins: 1, 2

## 50ZLJ1000M16X25
designator C?, comment 1000uF  (value not drawn)
CAP ALUM 1000UF 20% 50V RADIAL; Part Number: 50ZLJ1000M16X25; Manufacturer: Rubycon; TemperatureRange: -40C ~ 105C; Type: Polar; Ripple Current: 2.106A @ 120Hz; Impedance: 22 mOhm; Value: 1000uF; PartId: 26922; Supplier 1: Digi-Key; Supplier Part Number 1: 1189-1430-ND; ComponentLink1Description: Datasheet; ComponentLink1URL: http://www.rubycon.co.jp/en/catalog/e_pdfs/aluminum/e_zlj.pdf; ComponentLink2Description: Digi-Key Listing; ComponentLink2URL: https://www.digikey.com/product-detail/en/rubycon/50ZLJ1000M16X25/1189-1430-ND/3134386; Tolerance: 20%; Voltage: 50V; Price: 1.7; Device Package: Radial, Can, 16mm
footprint CAP AL TH D16 L7.5 H27
pins: 1, 2

## 63PX330MEFC10X20
designator C?, comment 330uF  (value not drawn)
CAP ALUM 330UF 20% 63V RADIAL; Part Number: 63PX330MEFC10X20; Manufacturer: Rubycon; TemperatureRange: -55C ~ 105C; Type: Polar; Ripple Current: 540mA; Value: 330uF; PartId: 25676; Supplier 1: Digi-Key; Supplier Part Number 1: 1189-1476-ND; ComponentLink1Description: Datasheet; ComponentLink1URL: http://www.rubycon.co.jp/en/catalog/e_pdfs/aluminum/e_px.pdf; ComponentLink2Description: Digi-Key Listing; ComponentLink2URL: https://www.digikey.com/product-detail/en/rubycon/63PX330MEFC10X20/1189-1476-ND/3134432; Tolerance: 20%; Voltage: 63V; Price: 0.78; Device Package: Radial, Can, 10mm
footprint CAP AL TH D10 L5 H22
pins: 1, 2

## 63PX470MEFC12.5X20
designator C?, comment 470uF  (value not drawn)
CAP ALUM 470UF 20% 63V RADIAL; Part Number: 63PX470MEFC12.5X20; Manufacturer: Rubycon; TemperatureRange: -55C ~ 105C; Type: Polar; Ripple Current: 700mA; Value: 470uF; PartId: 23016; Supplier 1: Digi-Key; Supplier Part Number 1: 1189-1478-ND; ComponentLink1Description: Datasheet; ComponentLink1URL: http://www.rubycon.co.jp/en/catalog/e_pdfs/aluminum/e_px.pdf; ComponentLink2Description: Digi-Key Listing; ComponentLink2URL: https://www.digikey.com/product-detail/en/rubycon/63PX470MEFC12.5X20/1189-1478-ND/3134434; Tolerance: 20%; Voltage: 63V; Price: 0; Device Package: Radial, Can, 12.5mm
footprint CAP AL TH D12.5 L5 H21.5
pins: 1, 2

## 63PX1000MEFC16X25
designator C?, comment 1000uF  (value not drawn)
CAP ALUM 1000UF 20% 63V RADIAL; Part Number: 63PX1000MEFC16X25; Manufacturer: Rubycon; TemperatureRange: -55C ~ 105C; Type: Polar; Ripple Current: 1.2A; Value: 1000uF; PartId: 26604; Supplier 1: Digi-Key; Supplier Part Number 1: 1189-1473-ND; ComponentLink1Description: Datasheet; ComponentLink1URL: http://www.rubycon.co.jp/en/catalog/e_pdfs/aluminum/e_px.pdf; ComponentLink2Description: Digi-Key Listing; ComponentLink2URL: https://www.digikey.com/product-detail/en/rubycon/63PX1000MEFC16X25/1189-1473-ND/3134429; Tolerance: 20%; Voltage: 63V; Price: 1.36; Device Package: Radial, Can, 16mm
footprint CAP AL TH D16 L7.5 H26.5
pins: 1, 2

## 63RX30100M10X16
designator C?, comment 100uF  (value not drawn)
CAP ALUM 100UF 20% 63V RADIAL; Part Number: 63RX30100M10X16; Manufacturer: Rubycon; TemperatureRange: -40C ~ 130C; Type: Polar; Ripple Current: 315mA; Impedance: 200 mOhm; Value: 100uF; PartId: 25525; Supplier 1: Digi-Key; Supplier Part Number 1: 1189-1480-ND; ComponentLink1Description: Datasheet; ComponentLink1URL: http://www.rubycon.co.jp/en/catalog/e_pdfs/aluminum/e_rx30.pdf; ComponentLink2Description: Digi-Key Listing; ComponentLink2URL: https://www.digikey.com/product-detail/en/rubycon/63RX30100M10X16/1189-1480-ND/3134436; Tolerance: 20%; Voltage: 63V; Price: 0.6; Device Package: Radial, Can, 10mm
footprint CAP AL TH D10 L5 H22
pins: 1, 2

## 63RX30220MG412.5X20
designator C?, comment 220uF  (value not drawn)
CAP ALUM 220UF 20% 63V RADIAL; Part Number: 63RX30220MG412.5X20; Manufacturer: Rubycon; TemperatureRange: -40C ~ 130C; Type: Polar; Ripple Current: 574mA; Impedance: 100 mOhm; Value: 220uF; PartId: 23395; Supplier 1: Digi-Key; Supplier Part Number 1: 1189-1676-1-ND; ComponentLink1Description: Datasheet; ComponentLink1URL: http://www.rubycon.co.jp/en/catalog/e_pdfs/aluminum/e_rx30.pdf; ComponentLink2Description: Digi-Key Listing; ComponentLink2URL: https://www.digikey.com/product-detail/en/rubycon/63RX30220MG412.5X20/1189-1676-1-ND/3134633; Tolerance: 20%; Voltage: 63V; Price: 0.96; Device Package: Radial, Can, 12.5mm
footprint CAP AL TH D12.5 L5 H22
pins: 1, 2

## 63RX30330MG412.5X25
designator C?, comment 330uF  (value not drawn)
CAP ALUM 330UF 20% 63V RADIAL; Part Number: 63RX30330MG412.5X25; Manufacturer: Rubycon; TemperatureRange: -40C ~ 130C; Type: Polar; Ripple Current: 1A; Impedance: 72 mOhm; Value: 330uF; PartId: 24126; Supplier 1: Digi-Key; Supplier Part Number 1: 1189-1677-1-ND; ComponentLink1Description: Datasheet; ComponentLink1URL: http://www.rubycon.co.jp/en/catalog/e_pdfs/aluminum/e_rx30.pdf; ComponentLink2Description: Digi-Key Listing; ComponentLink2URL: https://www.digikey.com/product-detail/en/rubycon/63RX30330MG412.5X25/1189-1677-1-ND/3134634; Tolerance: 20%; Voltage: 63V; Price: 1.43; Device Package: Radial, Can, 12.5mm
footprint CAP AL TH D12.5 L5 H27
pins: 1, 2

## 63YXG120MEFC10X16
designator C?, comment 120uF  (value not drawn)
CAP ALUM 120UF 20% 63V RADIAL; Part Number: 63YXG120MEFC10X16; Manufacturer: Rubycon; TemperatureRange: -40C ~ 105C; Type: Polar; Ripple Current: 178.5mA @ 120Hz; Impedance: 310 mOhm; Value: 120uF; PartId: 25353; Supplier 1: Digi-Key; Supplier Part Number 1: 1189-1491-ND; ComponentLink1Description: Datasheet; ComponentLink1URL: http://www.rubycon.co.jp/en/catalog/e_pdfs/aluminum/e_yxg.pdf; ComponentLink2Description: Digi-Key Listing; ComponentLink2URL: https://www.digikey.com/product-detail/en/rubycon/63YXG120MEFC10X16/1189-1491-ND/3134447; Tolerance: 20%; Voltage: 63V; Price: 0.69; Device Package: Radial, Can, 10mm
footprint CAP AL TH D10 L5 H17.5
pins: 1, 2

## 63YXJ470M12.5X25
designator C?, comment 470uF  (value not drawn)
CAP ALUM 470UF 20% 63V RADIAL; Part Number: 63YXJ470M12.5X25; Manufacturer: Rubycon; TemperatureRange: -40C ~ 105C; Type: Polar; Ripple Current: 1.99A; Impedance: 43 mOhm; Value: 470uF; PartId: 23873; Supplier 1: Digi-Key; Supplier Part Number 1: 1189-1501-ND; ComponentLink1Description: Datasheet; ComponentLink1URL: http://www.rubycon.co.jp/en/catalog/e_pdfs/aluminum/e_yxj.pdf; ComponentLink2Description: Digi-Key Listing; ComponentLink2URL: https://www.digikey.com/product-detail/en/rubycon/63YXJ470M12.5X25/1189-1501-ND/3134457; Tolerance: 20%; Voltage: 63V; Price: 0.82; Device Package: Radial, Can, 12.5mm
footprint CAP AL TH D12.5 L5 H27
pins: 1, 2

## 63ZLH270MEFC10X20
designator C?, comment 270uF  (value not drawn)
CAP ALUM 270UF 20% 63V RADIAL; Part Number: 63ZLH270MEFC10X20; Manufacturer: Rubycon; TemperatureRange: -40C ~ 105C; Type: Polar; Ripple Current: 600mA @ 120Hz; Impedance: 78 mOhm; Value: 270uF; PartId: 25954; Supplier 1: Digi-Key; Supplier Part Number 1: 1189-3031-ND; ComponentLink1Description: Datasheet; ComponentLink1URL: http://www.rubycon.co.jp/en/catalog/e_pdfs/aluminum/e_zlh.pdf; ComponentLink2Description: Digi-Key Listing; ComponentLink2URL: https://www.digikey.com/product-detail/en/rubycon/63ZLH270MEFC10X20/1189-3031-ND/3563820; Tolerance: 20%; Voltage: 63V; Price: 0.78; Device Package: Radial, Can, 10mm
footprint CAP AL TH D10 L5 H22
pins: 1, 2

## 63ZLH270MEFC12.5X16
designator C?, comment 270uF  (value not drawn)
CAP ALUM 270UF 20% 63V RADIAL; Part Number: 63ZLH270MEFC12.5X16; Manufacturer: Rubycon; TemperatureRange: -40C ~ 105C; Type: Polar; Ripple Current: 600mA; Impedance: 82 mOhm; Value: 270uF; PartId: 22828; Supplier 1: Digi-Key; Supplier Part Number 1: 1189-2357-ND; ComponentLink1Description: Datasheet; ComponentLink1URL: http://www.rubycon.co.jp/en/catalog/e_pdfs/aluminum/e_zlh.pdf; ComponentLink2Description: Digi-Key Listing; ComponentLink2URL: https://www.digikey.com/product-detail/en/rubycon/63ZLH270MEFC12.5X16/1189-2357-ND/3563974; Tolerance: 20%; Voltage: 63V; Price: 0; Device Package: Radial, Can, 12.5mm
footprint CAP AL TH D12.5 L5 H17.5
pins: 1, 2

## 63ZLH330MEFC10X23
designator C?, comment 330uF  (value not drawn)
CAP ALUM 330UF 20% 63V RADIAL; Part Number: 63ZLH330MEFC10X23; Manufacturer: Rubycon; TemperatureRange: -40C ~ 105C; Type: Polar; Ripple Current: 775.5mA; Impedance: 69 mOhm; Value: 330uF; PartId: 26140; Supplier 1: Digi-Key; Supplier Part Number 1: 1189-1766-ND; ComponentLink1Description: Datasheet; ComponentLink1URL: http://www.rubycon.co.jp/en/catalog/e_pdfs/aluminum/e_zlh.pdf; ComponentLink2Description: Digi-Key Listing; ComponentLink2URL: https://www.digikey.com/product-detail/en/rubycon/63ZLH330MEFC10X23/1189-1766-ND/3563862; Tolerance: 20%; Voltage: 63V; Price: 0.83; Device Package: Radial, Can, 10mm
footprint CAP AL TH D10 L5 H30
pins: 1, 2

## 63ZLH390MEFC12.5X20
designator C?, comment 390uF  (value not drawn)
CAP ALUM 390UF 20% 63V RADIAL; Part Number: 63ZLH390MEFC12.5X20; Manufacturer: Rubycon; TemperatureRange: -40C ~ 105C; Type: Polar; Ripple Current: 863.5mA @ 120Hz; Impedance: 60 mOhm; Value: 390uF; PartId: 23464; Supplier 1: Digi-Key; Supplier Part Number 1: 1189-3032-ND; ComponentLink1Description: Datasheet; ComponentLink1URL: http://www.rubycon.co.jp/en/catalog/e_pdfs/aluminum/e_zlh.pdf; ComponentLink2Description: Digi-Key Listing; ComponentLink2URL: https://www.digikey.com/product-detail/en/rubycon/63ZLH390MEFC12.5X20/1189-3032-ND/3564060; Tolerance: 20%; Voltage: 63V; Price: 1.07; Device Package: Radial, Can, 12.5mm
footprint CAP AL TH D12.5 L5 H22
pins: 1, 2

## 63ZLH470MEFC12.5X25
designator C?, comment 470uF  (value not drawn)
CAP ALUM 470UF 20% 63V RADIAL; Part Number: 63ZLH470MEFC12.5X25; Manufacturer: Rubycon; TemperatureRange: -40C ~ 105C; Type: Polar; Ripple Current: 1.0945A @ 120Hz; Impedance: 43 mOhm; Value: 470uF; PartId: 24069; Supplier 1: Digi-Key; Supplier Part Number 1: 1189-3033-ND; ComponentLink1Description: Datasheet; ComponentLink1URL: http://www.rubycon.co.jp/en/catalog/e_pdfs/aluminum/e_zlh.pdf; ComponentLink2Description: Digi-Key Listing; ComponentLink2URL: https://www.digikey.com/product-detail/en/rubycon/63ZLH470MEFC12.5X25/1189-3033-ND/3564146; Tolerance: 20%; Voltage: 63V; Price: 1.2; Device Package: Radial, Can, 12.5mm
footprint CAP AL TH D12.5 L5 H27
pins: 1, 2

## 63ZLH560MEFC12.5X30
designator C?, comment 560uF  (value not drawn)
CAP ALUM 560UF 20% 63V RADIAL; Part Number: 63ZLH560MEFC12.5X30; Manufacturer: Rubycon; TemperatureRange: -40C ~ 105C; Type: Polar; Ripple Current: 1.326A; Impedance: 35 mOhm; Value: 560uF; PartId: 24275; Supplier 1: Digi-Key; Supplier Part Number 1: 1189-1507-ND; ComponentLink1Description: Datasheet; ComponentLink1URL: http://www.rubycon.co.jp/en/catalog/e_pdfs/aluminum/e_zlh.pdf; ComponentLink2Description: Digi-Key Listing; ComponentLink2URL: https://www.digikey.com/product-detail/en/rubycon/63ZLH560MEFC12.5X30/1189-1507-ND/3134463; Tolerance: 20%; Voltage: 63V; Price: 1.08; Device Package: Radial, Can, 12.5mm
footprint CAP AL TH D12.5 L5 H35.5
pins: 1, 2